# Altium schematic symbol library OPA4187.SchLib: 1 symbol
Pins are listed as number, name and electrical type; pins without a type are passive.

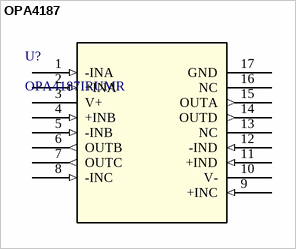
[diagram p0: symbol OPA4187]

## OPA4187
designator U?, comment OPA4187IRUMR
Zero-drift (10µV, 0.001µV/C˚), MUX-friendly, low-noise, RRO, CMOS quad precision op amp (quad); Vendor: Texas Instruments; Built_By: EMA_Cory; SourceLibrary: Add_to_database_2020-10-30; Datasheet: https://www.ti.com/lit/ds/symlink/opa4187.pdf?ts=1604082514403&ref_url=https%253A%252F%252Fwww.ti.com%252Fstore%252Fti%252Fen%252Fp%252Fproduct%252F%253Fp%253DOPA4187IRUMR; Manufacturer_Part_Number: OPA4187IRUMR; Copyright: Copyright (C) 2018 Accelerated Designs. All rights reserved; RefDes: RefDes; Type: DEV; ComponentLink1Description: Product Page; ComponentLink1URL: https://www.ti.com/product/OPA4187
footprint RUM16_TEX
pins: 1 -INA (in), 2 +INA (in), 3 V+ (power), 4 +INB (in), 5 -INB (in), 6 OUTB (out), 7 OUTC (out), 8 -INC (in), 9 +INC (in), 10 V- (power), 11 +IND (in), 12 -IND (in), 13 NC, 14 OUTD (out), 15 OUTA (out), 16 NC, 17 GND